# Altium footprint library DF11-12DP-2DS.PcbLib: 1 footprints
Each footprint in its own frame and in the unit in brackets; x right, y up, seen from the top. Pads: shape width x height; smd on the part's side, far side on the other; paste and mask are expansions set on the pad; w line width, h text height; cw(c..) or ccw(c..) is an arc to the next point about the centre after c.
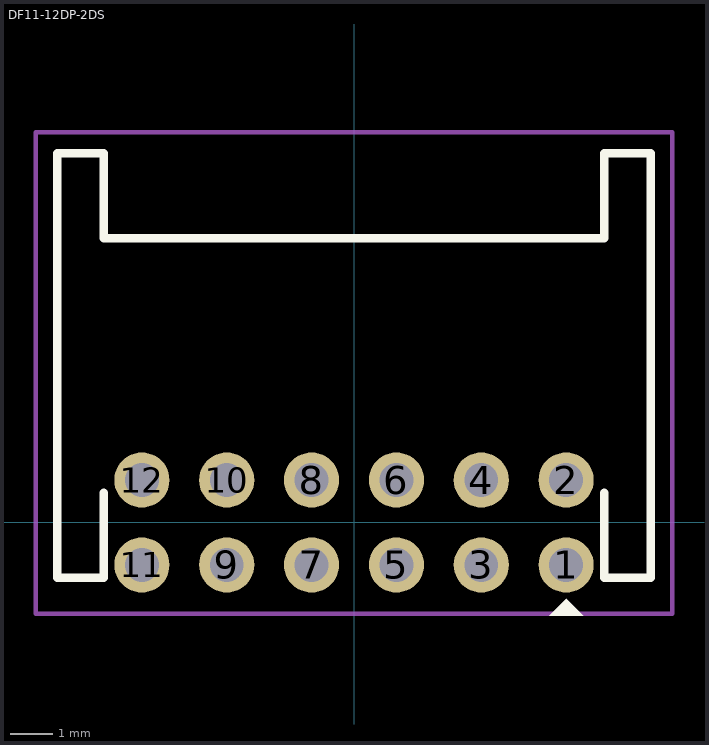
[diagram p0: the footprint, top view; thin cyan lines are the x and y axes]

## DF11-12DP-2DS [mm]
pads (12):
  round 1.3 hole 0.8: 1(5,-1) 2(5,1) 3(3,-1) 4(3,1) 5(1,-1) 6(1,1) 7(-1,-1) 8(-1,1) 9(-3,-1) 10(-3,1) 11(-5,-1) 12(-5,1)
Top Overlay:
  region: 5.4,-2.2 4.6,-2.2 5,-1.8
  lines w0.2: -5.9,0.7 -5.9,-1.3 -7,-1.3 -7,8.7 -5.9,8.7 -5.9,6.7 5.9,6.7 5.9,8.7 7,8.7 7,-1.3 5.9,-1.3 5.9,0.7
Top Courtyard:
  lines w0.1: -7.5,-2.15 -7.5,8.7 -7.5,9.2 7.5,9.2 7.5,-2.15 -7.5,-2.15
3D body "DF11-12DP-2DS.stp": height 5.16, standoff -2.84, extent -6.997,-1.3 7.003,8.7